# Altium schematic symbol library rf.SchLib: 11 symbols
Pins are listed as number, name and electrical type; pins without a type are passive.

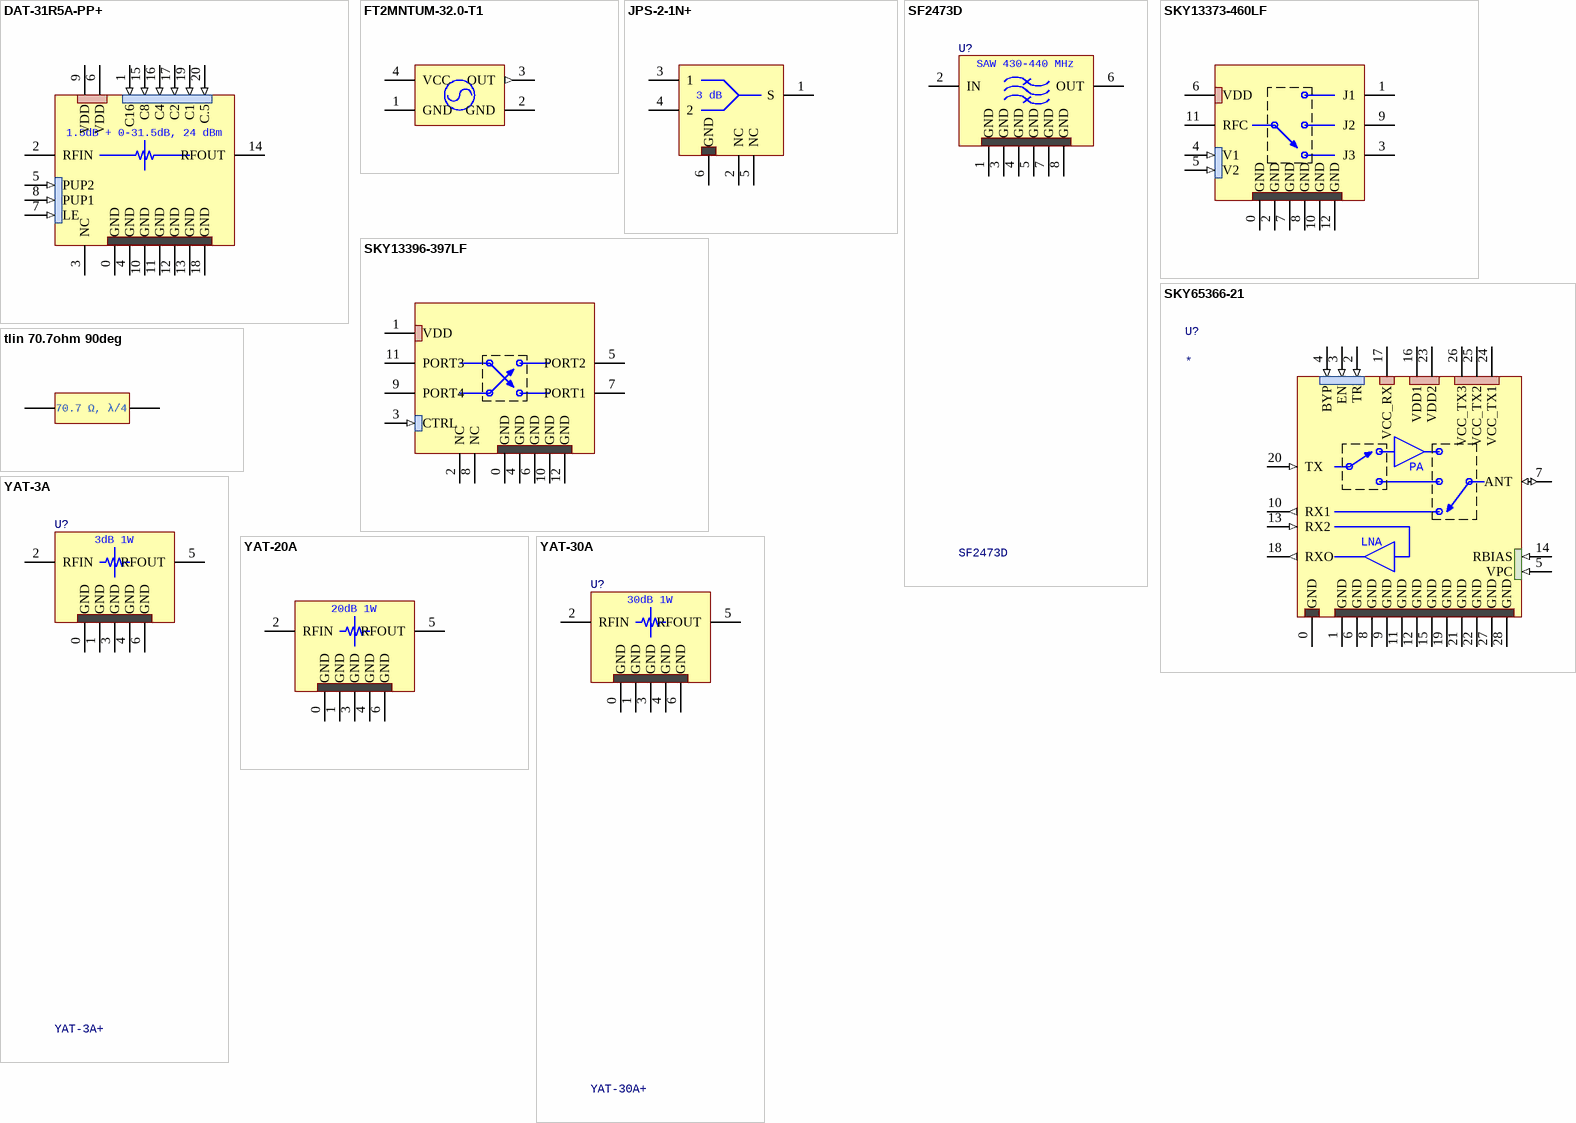
[diagram p0: symbols DAT-31R5A-PP+ to YAT-30A]

## DAT-31R5A-PP+
designator U?  (value not drawn)
Digital Step Attenuator  50Ω 0 to 31.5 dB, 0.5 dB Step DC to 4.0 GHz parallel
footprint DG983-2 (Mini-Circuits DG983-2)
pins: 0 GND (power), 1 C16 (in), 2 RFIN, 3 NC, 4 GND (power), 5 PUP2 (in), 6 VDD (power), 7 LE (in), 8 PUP1 (in), 9 VDD (power), 10 GND (power), 11 GND (power), 12 GND (power), 13 GND (power), 14 RFOUT, 15 C8 (in), 16 C4 (in), 17 C2 (in), 18 GND (power), 19 C1 (in), 20 C.5 (in)
text: 1.5dB + 0-31.5dB, 24 dBm

## FT2MNTUM-32.0-T1
designator Y?  (value not drawn)
Frequency: 32 MHz; Tolerance: ±0.5ppm; Load Capacitance: 10pF; Part Number: FT2MNTUM-32.0-T1
footprint TCXO-XTAL-FT2MN
pins: 1 GND (power), 2 GND (power), 3 OUT (out), 4 VCC (power)

## JPS-2-1N+
designator U?  (value not drawn)
Power Splitter/Combiner, 2 Way, 0°, 50Ω, 350 to 550 MHz
footprint SOP6-BH292-JPS-2-1N
pins: 1 S, 2 NC (power), 3 1, 4 2, 5 NC (power), 6 GND (power)
text: 3 dB

## SF2473D
designator U?
SAW Filter 435 MHz 10 MHz, 10 dBm, 3 V
pins: 1 GND (power), 2 IN, 3 GND (power), 4 GND (power), 5 GND (power), 6 OUT, 7 GND (power), 8 GND (power)
text: SAW 430-440 MHz

## SKY13373-460LF
designator U?  (value not drawn)
0.1 to 8.0 GHz SP3T Switch
footprint SKY13373-460LF
pins: 0 GND (power), 1 J1, 2 GND (power), 3 J3, 4 V1 (in), 5 V2 (in), 6 VDD (power), 7 GND (power), 8 GND (power), 9 J2, 10 GND (power), 11 RFC, 12 GND

## SKY13396-397LF
designator U?  (value not drawn)
0.4 to 3.0 GHz DPDT Switch
footprint SKY13396-397LF
pins: 0 GND (power), 1 VDD (power), 2 NC, 3 CTRL (in), 4 GND (power), 5 PORT2, 6 GND (power), 7 PORT1, 8 NC, 9 PORT4, 10 GND (power), 11 PORT3, 12 GND (power)

## SKY65366-21
designator U?
400 MHz Transmit/Receive Front-End Module
footprint MCM-28-SKY65366-21
pins: 0 GND (power), 1 GND (power), 2 TR (in), 3 EN (in), 4 BYP (in), 5 VPC (in), 6 GND (power), 7 ANT (io), 8 GND (power), 9 GND (power), 10 RX1 (out), 11 GND (power), 12 GND (power), 13 RX2 (in), 14 RBIAS (in), 15 GND (power), 16 VDD1 (power), 17 VCC_RX (power), 18 RXO (out), 19 GND (power), 20 TX (in), 21 GND (power), 22 GND (power), 23 VDD2 (power), 24 VCC_TX1 (power), 25 VCC_TX2 (power), 26 VCC_TX3 (power), 27 GND (power), 28 GND (power)
text: PA; LNA

## tlin 70.7ohm 90deg
designator TL?
pi/2, 90 deg, lambda/4 transmission line
pins: 0 A, 1 B
text: 70.7 Ω, λ/4

## YAT-3A
designator U?, comment YAT-3A+
Fixed Attenuator 50 OHM 2W 3 dB DC to 18 GHz
footprint MC1630 (Mini-Circuits MC1630)
pins: 0 GND (power), 1 GND (power), 2 RFIN, 3 GND (power), 4 GND (power), 5 RFOUT, 6 GND (power)
text: 3dB 1W

## YAT-20A
designator U?, comment YAT-20A+
Fixed Attenuator 50 OHM 1W 20 dB DC to 18 GHz
footprint MC1630 (Mini-Circuits MC1630)
pins: 0 GND (power), 1 GND (power), 2 RFIN, 3 GND (power), 4 GND (power), 5 RFOUT, 6 GND (power)
text: 20dB 1W

## YAT-30A
designator U?, comment YAT-30A+
Fixed Attenuator 50 OHM 1W 30 dB DC to 18 GHz
footprint MC1630 (Mini-Circuits MC1630)
pins: 0 GND (power), 1 GND (power), 2 RFIN, 3 GND (power), 4 GND (power), 5 RFOUT, 6 GND (power)
text: 30dB 1W